# EAGLE library part SN74LVC2G17DCKR (library tms-rgb)
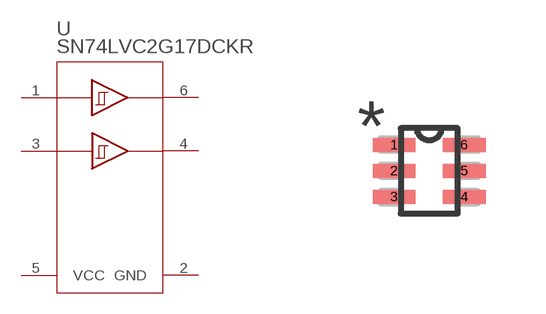
[diagram p5: symbol with the pads of DCK6; footprint DCK6]

Designator prefix U

## SN74LVC2G17DCKR (BUILT_BY: EMA_UL_Team; MANUFACTURER: Texas Instruments; MANUFACTURER_PART_NUMBER: SN74LVC2G17DCKR; VENDOR: Texas Instruments)  [DCK6]
1  1A  in
2  GND  pwr
3  2A  in
4  2Y  out
5  VCC  pwr
6  1Y  out

## Footprint DCK6 (pad centres in mm)
smd 1.067 x 0.356: 1 -0.876,0.65; 2 -0.876,0; 3 -0.876,-0.65; 4 0.876,-0.65; 5 0.876,0; 6 0.876,0.65